# EAGLE library part ON-NLAS3157 (library EagleLibrary)
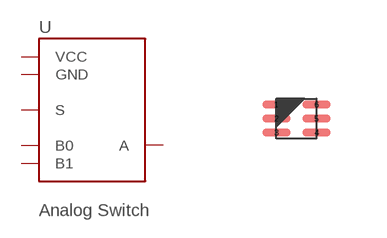
[diagram p38: symbol with the pads of ON-NLAS3157MX3TCG; footprint ON-NLAS3157MX3TCG]

Designator prefix U

## ON-NLAS3157 (MFG: ON Semiconductor; PN: NLAS3157MX3TCG)  [ON-NLAS3157MX3TCG]
1  VCC
2  B1
3  A
4  B0
5  GND
6  S

## Footprint ON-NLAS3157MX3TCG (pad centres in mm)
6-SON (DFN), 0.35 mm pitch, 1.00 X 1.00 X 0.40 mm body 6-pin SON (DFN) package with 0.35 mm pitch with body size 1.00 X 1.00 X 0.40 mm
smd 0.711 x 0.19: 1 -0.501,0.35; 2 -0.501,0; 3 -0.501,-0.35; 4 0.501,-0.35; 5 0.501,0; 6 0.501,0.35